# Altium footprint library con-phoenix-508.PCBLIB: 118 footprints (part 3 of 8)
Each footprint in its own frame and in the unit in brackets; x right, y up, seen from the top. Pads: shape width x height; smd on the part's side, far side on the other; paste and mask are expansions set on the pad; w line width, h text height; cw(c..) or ccw(c..) is an arc to the next point about the centre after c.
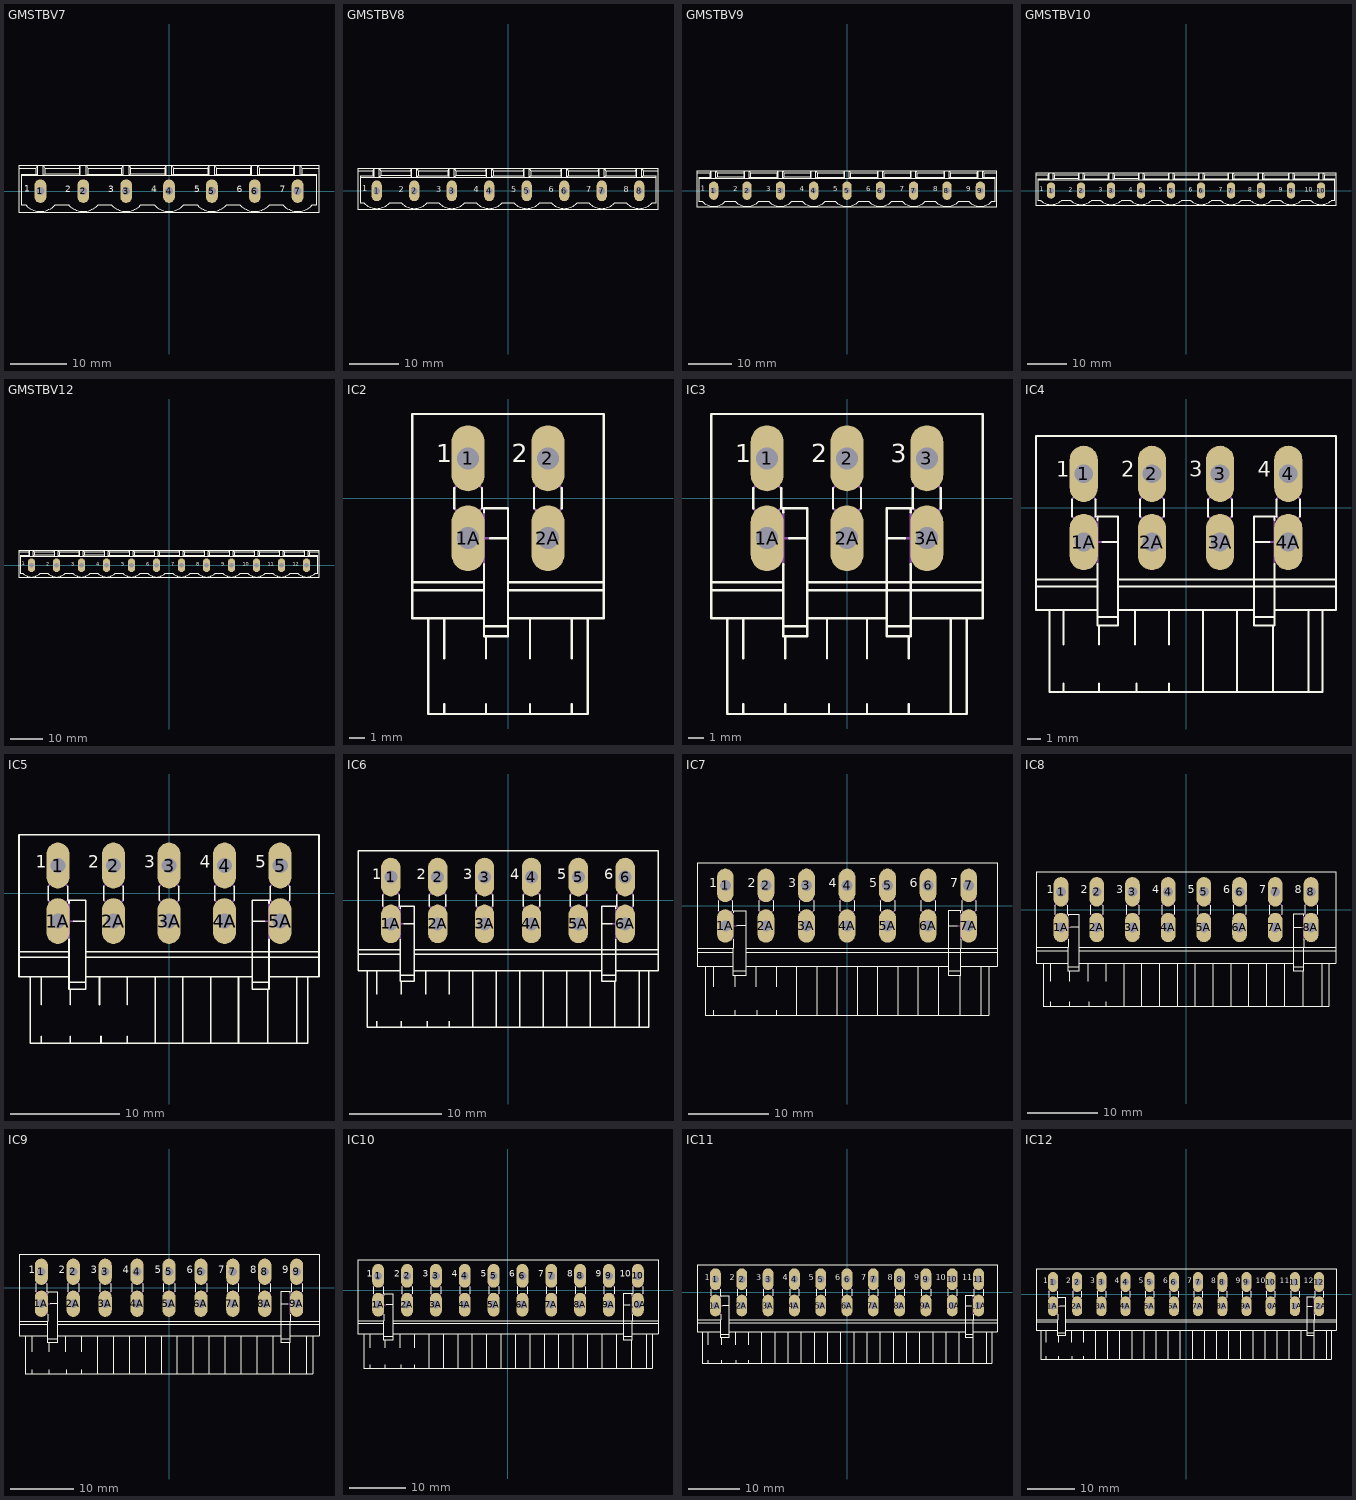
[diagram p2: the footprints below, top view; thin cyan lines are the x and y axes]

## GMSTBV7 [mil]
pads (7):
  oval 82.5x165 hole 55: 1(-900,0) 2(-600,0) 3(-300,0) 4(0,0) 5(300,0) 6(600,0) 7(900,0)
Top Overlay:
  lines w6: -1050,160 -1050,-150 1050,-150 1050,160 ; -1050,160 -1050,180 -920,180 ; -1050,160 -930,160 ; -1030,110 -1030,-100 -1000,-100 ccw(c-900,0) -800,-100 -700,-100 ccw(c-600,0) -500,-100 -400,-100 ccw(c-300,0) -200,-100 -100,-100 ccw(c0,0) 100,-100 200,-100 ccw(c300,0) 400,-100 500,-100 ccw(c600,0) 700,-100 800,-100 ccw(c900,0) 1000,-100 1030,-100 1030,110 ; -1030,110 -1030,120 -930,120 ; -1030,110 -920,110 ; -930,120 -920,110 ; -930,120 -930,160 ; -930,160 -920,180 ; -920,110 -880,110 ; -920,110 -920,180 ; -920,180 -880,180 ; -880,110 -620,110 ; -880,110 -880,180 ; -880,110 -870,120 ; -880,180 -620,180 ; -880,180 -870,160 ; -870,120 -870,160 ; -870,120 -630,120 ; -870,160 -630,160 ; -630,120 -630,160 ; -630,120 -620,110 ; -630,160 -620,180 ; -620,110 -580,110 ; -620,110 -620,180 ; -620,180 -580,180 ; -580,110 -580,180 ; -580,110 -570,120 ; -580,110 -320,110 ; -580,180 -570,160 ; -580,180 -320,180 ; -570,120 -570,160 ; -570,120 -330,120 ; -570,160 -330,160 ; -330,120 -320,110 ; -330,120 -330,160 ; -330,160 -320,180 ; -320,110 -280,110 ; -320,110 -320,180 ; -320,180 -280,180 ; -280,110 -20,110 ; -280,110 -280,180 ; -280,110 -270,120 ; -280,180 -20,180 ; -280,180 -270,160 ; -270,120 -270,160 ; -270,120 -30,120 ; -270,160 -30,160 ; -30,120 -30,160 ; -30,120 -20,110 ; -30,160 -20,180 ; -20,110 20,110 ; -20,110 -20,180 ; -20,180 20,180 ; 20,110 20,180 ; 20,110 30,120 ; 20,110 280,110 ; 20,180 30,160 ; 20,180 280,180 ; 30,120 30,160 ; 30,120 270,120 ; 30,160 270,160 ; 270,120 270,160 ; 270,120 280,110 ; 270,160 280,180 ; 280,110 320,110 ; 280,110 280,180 ; 280,180 320,180 ; 320,110 320,180 ; 320,110 330,120 ; 320,110 580,110 ; 320,180 330,160 ; 320,180 580,180 ; 330,120 570,120 ; 330,120 330,160 ; 330,160 570,160 ; 570,120 570,160 ; 570,120 580,110 ; 570,160 580,180 ; 580,110 620,110 ; 580,110 580,180 ; 580,180 620,180 ; 620,110 620,180 ; 620,110 630,120 ; 620,110 880,110 ; 620,180 630,160 ; 620,180 880,180 ; 630,120 870,120 ; 630,120 630,160 ; 630,160 870,160 ; 870,120 870,160 ; 870,120 880,110 ; 870,160 880,180 ; 880,110 920,110 ; 880,110 880,180 ; 880,180 920,180 ; 920,110 1030,110 ; 920,110 920,180 ; 920,110 930,120 ; 920,180 1050,180 1050,160 ; 920,180 930,160 ; 930,120 1030,120 1030,110 ; 930,120 930,160 ; 930,160 1050,160
  text "1" at -1015,-20 h77.5
  text "2" at -725,-25 h77.5
  text "3" at -425,-25 h77.5
  text "4" at -125,-25 h77.5
  text "5" at 175,-25 h77.5
  text "6" at 475,-25 h77.5
  text "7" at 775,-25 h77.5
Mechanical 16:
  lines w6: -925,-25 -925,25 ; -925,-25 -875,-25 ; -925,-25 -875,25 ; -925,25 -875,25 ; -925,25 -875,-25 ; -875,-25 -875,25 ; -625,-25 -625,25 ; -625,-25 -575,-25 ; -625,-25 -575,25 ; -625,25 -575,25 ; -625,25 -575,-25 ; -575,-25 -575,25 ; -325,-25 -325,25 ; -325,-25 -275,-25 ; -325,-25 -275,25 ; -325,25 -275,25 ; -325,25 -275,-25 ; -275,-25 -275,25 ; -25,-25 -25,25 ; -25,-25 25,-25 ; -25,-25 25,25 ; -25,25 25,25 ; -25,25 25,-25 ; 25,-25 25,25 ; 275,-25 275,25 ; 275,-25 325,-25 ; 275,-25 325,25 ; 275,25 325,25 ; 275,25 325,-25 ; 325,-25 325,25 ; 575,-25 575,25 ; 575,-25 625,-25 ; 575,-25 625,25 ; 575,25 625,25 ; 575,25 625,-25 ; 625,-25 625,25 ; 875,-25 875,25 ; 875,-25 925,-25 ; 875,-25 925,25 ; 875,25 925,25 ; 875,25 925,-25 ; 925,-25 925,25

## GMSTBV8 [mil]
pads (8):
  oval 82.5x165 hole 55: 1(-1050,0) 2(-750,0) 3(-450,0) 4(-150,0) 5(150,0) 6(450,0) 7(750,0) 8(1050,0)
Top Overlay:
  lines w6: -1200,160 -1200,-150 1200,-150 1200,160 ; -1200,160 -1200,180 -1070,180 ; -1200,160 -1080,160 ; -1180,110 -1180,-100 -1150,-100 ccw(c-1050,0) -950,-100 -850,-100 ccw(c-750,0) -650,-100 -550,-100 ccw(c-450,0) -350,-100 -250,-100 ccw(c-150,0) -50,-100 50,-100 ccw(c150,0) 250,-100 350,-100 ccw(c450,0) 550,-100 650,-100 ccw(c750,0) 850,-100 950,-100 ccw(c1050,0) 1150,-100 1180,-100 1180,110 ; -1180,110 -1180,120 -1080,120 ; -1180,110 -1070,110 ; -1080,120 -1070,110 ; -1080,120 -1080,160 ; -1080,160 -1070,180 ; -1070,110 -1030,110 ; -1070,110 -1070,180 ; -1070,180 -1030,180 ; -1030,110 -770,110 ; -1030,110 -1030,180 ; -1030,110 -1020,120 ; -1030,180 -770,180 ; -1030,180 -1020,160 ; -1020,120 -1020,160 ; -1020,120 -780,120 ; -1020,160 -780,160 ; -780,120 -780,160 ; -780,120 -770,110 ; -780,160 -770,180 ; -770,110 -730,110 ; -770,110 -770,180 ; -770,180 -730,180 ; -730,110 -730,180 ; -730,110 -720,120 ; -730,110 -470,110 ; -730,180 -720,160 ; -730,180 -470,180 ; -720,120 -720,160 ; -720,120 -480,120 ; -720,160 -480,160 ; -480,120 -470,110 ; -480,120 -480,160 ; -480,160 -470,180 ; -470,110 -430,110 ; -470,110 -470,180 ; -470,180 -430,180 ; -430,110 -170,110 ; -430,110 -430,180 ; -430,110 -420,120 ; -430,180 -170,180 ; -430,180 -420,160 ; -420,120 -420,160 ; -420,120 -180,120 ; -420,160 -180,160 ; -180,120 -180,160 ; -180,120 -170,110 ; -180,160 -170,180 ; -170,110 -130,110 ; -170,110 -170,180 ; -170,180 -130,180 ; -130,110 -130,180 ; -130,110 -120,120 ; -130,110 130,110 ; -130,180 -120,160 ; -130,180 130,180 ; -120,120 -120,160 ; -120,120 120,120 ; -120,160 120,160 ; 120,120 120,160 ; 120,120 130,110 ; 120,160 130,180 ; 130,110 170,110 ; 130,110 130,180 ; 130,180 170,180 ; 170,110 170,180 ; 170,110 180,120 ; 170,110 430,110 ; 170,180 180,160 ; 170,180 430,180 ; 180,120 420,120 ; 180,120 180,160 ; 180,160 420,160 ; 420,120 420,160 ; 420,120 430,110 ; 420,160 430,180 ; 430,110 470,110 ; 430,110 430,180 ; 430,180 470,180 ; 470,110 470,180 ; 470,110 480,120 ; 470,110 730,110 ; 470,180 480,160 ; 470,180 730,180 ; 480,120 720,120 ; 480,120 480,160 ; 480,160 720,160 ; 720,120 720,160 ; 720,120 730,110 ; 720,160 730,180 ; 730,110 770,110 ; 730,110 730,180 ; 730,180 770,180 ; 770,110 1030,110 ; 770,110 770,180 ; 770,110 780,120 ; 770,180 1030,180 ; 770,180 780,160 ; 780,120 1020,120 ; 780,120 780,160 ; 780,160 1020,160 ; 1020,120 1020,160 ; 1020,120 1030,110 ; 1020,160 1030,180 ; 1030,110 1070,110 ; 1030,110 1030,180 ; 1030,180 1070,180 ; 1070,110 1180,110 ; 1070,110 1070,180 ; 1070,110 1080,120 ; 1070,180 1200,180 1200,160 ; 1070,180 1080,160 ; 1080,120 1180,120 1180,110 ; 1080,120 1080,160 ; 1080,160 1200,160
  text "1" at -1165,-20 h77.5
  text "2" at -875,-25 h77.5
  text "3" at -575,-25 h77.5
  text "4" at -275,-25 h77.5
  text "5" at 25,-25 h77.5
  text "6" at 325,-25 h77.5
  text "7" at 625,-25 h77.5
  text "8" at 925,-25 h77.5
Mechanical 16:
  lines w6: -1075,-25 -1075,25 ; -1075,-25 -1025,-25 ; -1075,-25 -1025,25 ; -1075,25 -1025,25 ; -1075,25 -1025,-25 ; -1025,-25 -1025,25 ; -775,-25 -775,25 ; -775,-25 -725,-25 ; -775,-25 -725,25 ; -775,25 -725,25 ; -775,25 -725,-25 ; -725,-25 -725,25 ; -475,-25 -475,25 ; -475,-25 -425,-25 ; -475,-25 -425,25 ; -475,25 -425,25 ; -475,25 -425,-25 ; -425,-25 -425,25 ; -175,-25 -175,25 ; -175,-25 -125,-25 ; -175,-25 -125,25 ; -175,25 -125,25 ; -175,25 -125,-25 ; -125,-25 -125,25 ; 125,-25 125,25 ; 125,-25 175,-25 ; 125,-25 175,25 ; 125,25 175,25 ; 125,25 175,-25 ; 175,-25 175,25 ; 425,-25 425,25 ; 425,-25 475,-25 ; 425,-25 475,25 ; 425,25 475,25 ; 425,25 475,-25 ; 475,-25 475,25 ; 725,-25 725,25 ; 725,-25 775,-25 ; 725,-25 775,25 ; 725,25 775,25 ; 725,25 775,-25 ; 775,-25 775,25 ; 1025,-25 1075,-25 ; 1025,-25 1025,25 ; 1025,-25 1075,25 ; 1025,25 1075,25 ; 1025,25 1075,-25 ; 1075,-25 1075,25

## GMSTBV9 [mil]
pads (9):
  oval 82.5x165 hole 55: 1(-1200,0) 2(-900,0) 3(-600,0) 4(-300,0) 5(0,0) 6(300,0) 7(600,0) 8(900,0) 9(1200,0)
Top Overlay:
  drawing of 158 lines, arcs and shapes, not listed
  text "1" at -1315,-20 h77.5
  text "2" at -1025,-25 h77.5
  text "3" at -725,-25 h77.5
  text "4" at -425,-25 h77.5
  text "5" at -125,-25 h77.5
  text "6" at 175,-25 h77.5
  text "7" at 475,-25 h77.5
  text "8" at 775,-25 h77.5
  text "9" at 1075,-25 h77.5
Mechanical 16:
  lines w6: -1225,-25 -1225,25 ; -1225,-25 -1175,-25 ; -1225,-25 -1175,25 ; -1225,25 -1175,25 ; -1225,25 -1175,-25 ; -1175,-25 -1175,25 ; -925,-25 -925,25 ; -925,-25 -875,-25 ; -925,-25 -875,25 ; -925,25 -875,25 ; -925,25 -875,-25 ; -875,-25 -875,25 ; -625,-25 -625,25 ; -625,-25 -575,-25 ; -625,-25 -575,25 ; -625,25 -575,25 ; -625,25 -575,-25 ; -575,-25 -575,25 ; -325,-25 -325,25 ; -325,-25 -275,-25 ; -325,-25 -275,25 ; -325,25 -275,25 ; -325,25 -275,-25 ; -275,-25 -275,25 ; -25,-25 -25,25 ; -25,-25 25,-25 ; -25,-25 25,25 ; -25,25 25,25 ; -25,25 25,-25 ; 25,-25 25,25 ; 275,-25 275,25 ; 275,-25 325,-25 ; 275,-25 325,25 ; 275,25 325,25 ; 275,25 325,-25 ; 325,-25 325,25 ; 575,-25 575,25 ; 575,-25 625,-25 ; 575,-25 625,25 ; 575,25 625,25 ; 575,25 625,-25 ; 625,-25 625,25 ; 875,-25 875,25 ; 875,-25 925,25 ; 875,-25 925,-25 ; 875,25 925,25 ; 875,25 925,-25 ; 925,-25 925,25 ; 1175,-25 1225,-25 ; 1175,-25 1175,25 ; 1175,-25 1225,25 ; 1175,25 1225,25 ; 1175,25 1225,-25 ; 1225,-25 1225,25

## GMSTBV10 [mil]
pads (10):
  oval 82.5x165 hole 55: 1(-1350,0) 2(-1050,0) 3(-750,0) 4(-450,0) 5(-150,0) 6(150,0) 7(450,0) 8(750,0) 9(1050,0) 10(1350,0)
Top Overlay:
  drawing of 174 lines, arcs and shapes, not listed
  text "1" at -1465,-20 h77.5
  text "2" at -1175,-25 h77.5
  text "3" at -875,-25 h77.5
  text "4" at -575,-25 h77.5
  text "5" at -275,-25 h77.5
  text "6" at 25,-25 h77.5
  text "7" at 325,-25 h77.5
  text "8" at 625,-25 h77.5
  text "9" at 925,-25 h77.5
  text "10" at 1185,-25 h77.5
Mechanical 16:
  lines w6: -1375,-25 -1375,25 ; -1375,-25 -1325,-25 ; -1375,-25 -1325,25 ; -1375,25 -1325,25 ; -1375,25 -1325,-25 ; -1325,-25 -1325,25 ; -1075,-25 -1075,25 ; -1075,-25 -1025,-25 ; -1075,-25 -1025,25 ; -1075,25 -1025,25 ; -1075,25 -1025,-25 ; -1025,-25 -1025,25 ; -775,-25 -775,25 ; -775,-25 -725,-25 ; -775,-25 -725,25 ; -775,25 -725,25 ; -775,25 -725,-25 ; -725,-25 -725,25 ; -475,-25 -475,25 ; -475,-25 -425,-25 ; -475,-25 -425,25 ; -475,25 -425,25 ; -475,25 -425,-25 ; -425,-25 -425,25 ; -175,-25 -175,25 ; -175,-25 -125,-25 ; -175,-25 -125,25 ; -175,25 -125,25 ; -175,25 -125,-25 ; -125,-25 -125,25 ; 125,-25 125,25 ; 125,-25 175,-25 ; 125,-25 175,25 ; 125,25 175,25 ; 125,25 175,-25 ; 175,-25 175,25 ; 425,-25 425,25 ; 425,-25 475,-25 ; 425,-25 475,25 ; 425,25 475,25 ; 425,25 475,-25 ; 475,-25 475,25 ; 725,-25 725,25 ; 725,-25 775,25 ; 725,-25 775,-25 ; 725,25 775,25 ; 725,25 775,-25 ; 775,-25 775,25 ; 1025,-25 1075,-25 ; 1025,-25 1025,25 ; 1025,-25 1075,25 ; 1025,25 1075,25 ; 1025,25 1075,-25 ; 1075,-25 1075,25 ; 1325,-25 1375,-25 ; 1325,-25 1325,25 ; 1325,-25 1375,25 ; 1325,25 1375,25 ; 1325,25 1375,-25 ; 1375,-25 1375,25

## GMSTBV12 [mil]
pads (12):
  oval 82.5x165 hole 55: 1(-1650,0) 2(-1350,0) 3(-1050,0) 4(-750,0) 5(-450,0) 6(-150,0) 7(150,0) 8(450,0) 9(750,0) 10(1050,0) 11(1350,0) 12(1650,0)
Top Overlay:
  drawing of 206 lines, arcs and shapes, not listed
  text "1" at -1765,-20 h77.5
  text "2" at -1475,-25 h77.5
  text "3" at -1175,-25 h77.5
  text "4" at -875,-25 h77.5
  text "5" at -575,-25 h77.5
  text "6" at -275,-25 h77.5
  text "7" at 25,-25 h77.5
  text "8" at 325,-25 h77.5
  text "9" at 625,-25 h77.5
  text "10" at 885,-25 h77.5
  text "11" at 1185,-25 h77.5
  text "12" at 1485,-25 h77.5
Mechanical 16:
  lines w6: -1675,-25 -1675,25 ; -1675,-25 -1625,-25 ; -1675,-25 -1625,25 ; -1675,25 -1625,25 ; -1675,25 -1625,-25 ; -1625,-25 -1625,25 ; -1375,-25 -1375,25 ; -1375,-25 -1325,-25 ; -1375,-25 -1325,25 ; -1375,25 -1325,25 ; -1375,25 -1325,-25 ; -1325,-25 -1325,25 ; -1075,-25 -1075,25 ; -1075,-25 -1025,-25 ; -1075,-25 -1025,25 ; -1075,25 -1025,25 ; -1075,25 -1025,-25 ; -1025,-25 -1025,25 ; -775,-25 -775,25 ; -775,-25 -725,-25 ; -775,-25 -725,25 ; -775,25 -725,25 ; -775,25 -725,-25 ; -725,-25 -725,25 ; -475,-25 -475,25 ; -475,-25 -425,-25 ; -475,-25 -425,25 ; -475,25 -425,25 ; -475,25 -425,-25 ; -425,-25 -425,25 ; -175,-25 -175,25 ; -175,-25 -125,-25 ; -175,-25 -125,25 ; -175,25 -125,25 ; -175,25 -125,-25 ; -125,-25 -125,25 ; 125,-25 125,25 ; 125,-25 175,-25 ; 125,-25 175,25 ; 125,25 175,25 ; 125,25 175,-25 ; 175,-25 175,25 ; 425,-25 425,25 ; 425,-25 475,25 ; 425,-25 475,-25 ; 425,25 475,25 ; 425,25 475,-25 ; 475,-25 475,25 ; 725,-25 775,-25 ; 725,-25 725,25 ; 725,-25 775,25 ; 725,25 775,25 ; 725,25 775,-25 ; 775,-25 775,25 ; 1025,-25 1075,-25 ; 1025,-25 1025,25 ; 1025,-25 1075,25 ; 1025,25 1075,25 ; 1025,25 1075,-25 ; 1075,-25 1075,25 ; 1325,-25 1325,25 ; 1325,-25 1375,-25 ; 1325,-25 1375,25 ; 1325,25 1375,25 ; 1325,25 1375,-25 ; 1375,-25 1375,25 ; 1625,-25 1625,25 ; 1625,-25 1675,-25 ; 1625,-25 1675,25 ; 1625,25 1675,25 ; 1625,25 1675,-25 ; 1675,-25 1675,25

## IC2 [mil]
pads (4):
  oval 82.5x165 hole 55: 1(-100,100) 1A(-100,-100) 2(100,100) 2A(100,-100)
Top Overlay:
  lines w6: -160,-515 -160,-540 ; -160,-400 -160,-300 ; -135,-25 -135,25 ; -65,-25 -65,25 ; -60,-165 -60,-210 ; -60,-35 -60,-25 0,-25 0,-100 ; -55,-515 -55,-540 ; -55,-400 -55,-345 ; -45,-100 0,-100 ; 55,-515 55,-540 ; 55,-400 55,-300 ; 65,-25 65,25 ; 135,-25 135,25 ; 160,-515 160,-540 ; 160,-400 160,-300 ; -240,-230 -240,-210 ; -240,-230 -60,-230 ; -240,-230 -240,-300 -200,-300 ; -240,-210 -240,211 240,211 240,-210 ; -240,-210 -60,-210 ; -200,-300 -160,-300 ; -200,-300 -200,-540 -160,-540 ; -160,-540 -55,-540 ; -160,-300 -60,-300 ; -60,-320 -60,-345 -55,-345 ; -60,-320 0,-320 ; -60,-320 -60,-300 ; -60,-300 -60,-230 ; -60,-230 -60,-210 ; -55,-540 55,-540 ; -55,-345 0,-345 0,-320 ; 0,-320 0,-300 ; 0,-300 0,-230 ; 0,-300 55,-300 ; 0,-230 0,-210 ; 0,-230 240,-230 ; 0,-210 0,-100 ; 0,-210 240,-210 ; 55,-540 160,-540 ; 55,-300 160,-300 ; 160,-540 200,-540 200,-300 ; 160,-300 200,-300 ; 200,-300 240,-300 240,-230 ; 240,-230 240,-210
  text "1" at -180,75 h77.5
  text "2" at 10,75 h77.5
Mechanical 16:
  lines w6: -135,-25 -125,-35 -75,-35 -65,-25 ; -135,25 -125,35 -75,35 -65,25 ; -60,-165 -60,-100 ; -60,-35 -60,-100 ; -45,-100 -60,-100 ; 65,-25 75,-35 125,-35 135,-25 ; 65,25 75,35 125,35 135,25

## IC3 [mil]
pads (6):
  oval 82.5x165 hole 55: 1(-200,100) 1A(-200,-100) 2(0,100) 2A(0,-100) 3(200,100) 3A(200,-100)
Top Overlay:
  lines w6: -260,-515 -260,-540 ; -260,-400 -260,-300 ; -235,-25 -235,25 ; -165,-25 -165,25 ; -160,-165 -160,-210 ; -160,-35 -160,-25 -100,-25 -100,-100 ; -155,-515 -155,-540 ; -155,-400 -155,-345 ; -145,-100 -100,-100 ; -50,-400 -50,-300 ; -45,-515 -45,-540 ; -35,-25 -35,25 ; 35,-25 35,25 ; 50,-515 50,-540 ; 50,-400 50,-300 ; 145,-100 100,-100 ; 155,-515 155,-540 ; 155,-400 155,-345 ; 160,-165 160,-210 ; 160,-35 160,-25 100,-25 100,-100 ; 165,-25 165,25 ; 235,-25 235,25 ; -340,-230 -340,-210 ; -340,-230 -160,-230 ; -340,-230 -340,-300 -300,-300 ; -340,-210 -340,211 340,211 340,-210 ; -340,-210 -160,-210 ; -300,-300 -260,-300 ; -300,-300 -300,-540 -260,-540 ; -260,-540 -155,-540 ; -260,-300 -160,-300 ; -160,-320 -160,-345 -155,-345 ; -160,-320 -100,-320 ; -160,-320 -160,-300 ; -160,-300 -160,-230 ; -160,-230 -160,-210 ; -155,-540 -45,-540 ; -155,-345 -100,-345 -100,-320 ; -100,-320 -100,-300 ; -100,-300 -100,-230 ; -100,-300 -50,-300 ; -100,-230 -100,-210 ; -100,-230 100,-230 ; -100,-210 -100,-100 ; -100,-210 100,-210 ; -50,-300 50,-300 ; -45,-540 50,-540 ; 50,-540 155,-540 ; 50,-300 100,-300 ; 100,-320 100,-300 ; 100,-320 160,-320 ; 100,-320 100,-345 155,-345 ; 100,-300 100,-230 ; 100,-230 160,-230 ; 100,-230 100,-210 ; 100,-210 160,-210 ; 100,-210 100,-100 ; 155,-540 260,-540 ; 155,-345 160,-345 160,-320 ; 160,-320 160,-300 ; 160,-300 260,-300 ; 160,-300 160,-230 ; 160,-230 340,-230 ; 160,-230 160,-210 ; 160,-210 340,-210 ; 260,-540 300,-540 300,-300 ; 260,-540 260,-300 ; 260,-300 300,-300 ; 300,-300 340,-300 340,-230 ; 340,-230 340,-210
  text "3" at 110,75 h77.5
  text "1" at -280,75 h77.5
  text "2" at -90,75 h77.5
Mechanical 16:
  lines w6: -235,-25 -225,-35 -175,-35 -165,-25 ; -235,25 -225,35 -175,35 -165,25 ; -160,-165 -160,-100 ; -160,-35 -160,-100 ; -145,-100 -160,-100 ; -35,-25 -25,-35 25,-35 35,-25 ; -35,25 -25,35 25,35 35,25 ; 145,-100 160,-100 ; 160,-165 160,-100 ; 160,-35 160,-100 ; 165,-25 175,-35 225,-35 235,-25 ; 165,25 175,35 225,35 235,25

## IC4 [mil]
pads (8):
  oval 82.5x165 hole 55: 1(-300,100) 1A(-300,-100) 2(-100,100) 2A(-100,-100) 3(100,100) 3A(100,-100) 4(300,100) 4A(300,-100)
Top Overlay:
  lines w6: -360,-515 -360,-540 ; -360,-400 -360,-300 ; -335,-25 -335,25 ; -265,-25 -265,25 ; -260,-165 -260,-210 ; -260,-35 -260,-25 -200,-25 -200,-100 ; -255,-515 -255,-540 ; -255,-400 -255,-345 ; -245,-100 -200,-100 ; -150,-400 -150,-300 ; -145,-515 -145,-540 ; -135,-25 -135,25 ; -65,-25 -65,25 ; -50,-515 -50,-540 ; -50,-400 -50,-300 ; 65,-25 65,25 ; 135,-25 135,25 ; 245,-100 200,-100 ; 260,-165 260,-210 ; 260,-35 260,-25 200,-25 200,-100 ; 265,-25 265,25 ; 335,-25 335,25 ; -440,-230 -440,-210 ; -440,-230 -260,-230 ; -440,-230 -440,-300 -400,-300 ; -440,-210 -440,211 440,211 440,-210 ; -440,-210 -260,-210 ; -400,-300 -360,-300 ; -400,-300 -400,-540 -360,-540 ; -360,-540 -255,-540 ; -360,-300 -260,-300 ; -260,-320 -260,-345 -255,-345 ; -260,-320 -200,-320 ; -260,-320 -260,-300 ; -260,-300 -260,-230 ; -260,-230 -260,-210 ; -255,-540 -145,-540 ; -255,-345 -200,-345 -200,-320 ; -200,-320 -200,-300 ; -200,-300 -200,-230 ; -200,-300 -150,-300 ; -200,-230 -200,-210 ; -200,-230 200,-230 ; -200,-210 -200,-100 ; -200,-210 200,-210 ; -150,-300 -50,-300 ; -145,-540 -50,-540 ; -50,-540 50,-540 ; -50,-300 50,-300 ; 50,-540 150,-540 ; 50,-540 50,-300 ; 50,-300 150,-300 ; 150,-540 255,-540 ; 150,-540 150,-300 ; 150,-300 200,-300 ; 200,-320 200,-300 ; 200,-320 260,-320 ; 200,-320 200,-345 255,-345 ; 200,-300 200,-230 ; 200,-230 260,-230 ; 200,-230 200,-210 ; 200,-210 260,-210 ; 200,-210 200,-100 ; 255,-540 360,-540 ; 255,-540 255,-345 ; 255,-345 260,-345 260,-320 ; 260,-320 260,-300 ; 260,-300 360,-300 ; 260,-300 260,-230 ; 260,-230 440,-230 ; 260,-230 260,-210 ; 260,-210 440,-210 ; 360,-540 400,-540 400,-300 ; 360,-540 360,-300 ; 360,-300 400,-300 ; 400,-300 440,-300 440,-230 ; 440,-230 440,-210
  text "4" at 210,75 h77.5
  text "3" at 10,75 h77.5
  text "1" at -380,75 h77.5
  text "2" at -190,75 h77.5
Mechanical 16:
  lines w6: -335,-25 -325,-35 -275,-35 -265,-25 ; -335,25 -325,35 -275,35 -265,25 ; -260,-165 -260,-100 ; -260,-35 -260,-100 ; -245,-100 -260,-100 ; -135,-25 -125,-35 -75,-35 -65,-25 ; -135,25 -125,35 -75,35 -65,25 ; 65,-25 75,-35 125,-35 135,-25 ; 65,25 75,35 125,35 135,25 ; 245,-100 260,-100 ; 260,-165 260,-100 ; 260,-35 260,-100 ; 265,-25 275,-35 325,-35 335,-25 ; 265,25 275,35 325,35 335,25

## IC5 [mil]
pads (10):
  oval 82.5x165 hole 55: 1(-400,100) 1A(-400,-100) 2(-200,100) 2A(-200,-100) 3(0,100) 3A(0,-100) 4(200,100) 4A(200,-100) 5(400,100) 5A(400,-100)
Top Overlay:
  lines w6: -460,-515 -460,-540 ; -460,-400 -460,-300 ; -435,-25 -435,25 ; -365,-25 -365,25 ; -360,-165 -360,-210 ; -360,-35 -360,-25 -300,-25 -300,-100 ; -355,-515 -355,-540 ; -355,-400 -355,-345 ; -345,-100 -300,-100 ; -250,-400 -250,-300 ; -245,-515 -245,-540 ; -235,-25 -235,25 ; -165,-25 -165,25 ; -150,-515 -150,-540 ; -150,-400 -150,-300 ; -35,-25 -35,25 ; 35,-25 35,25 ; 165,-25 165,25 ; 235,-25 235,25 ; 345,-100 300,-100 ; 360,-165 360,-210 ; 360,-35 360,-25 300,-25 300,-100 ; 365,-25 365,25 ; 435,-25 435,25 ; -540,-230 -540,-210 ; -540,-230 -360,-230 ; -540,-230 -540,-300 -500,-300 ; -540,-210 -540,211 540,211 540,-210 ; -540,-210 -360,-210 ; -500,-300 -460,-300 ; -500,-300 -500,-540 -460,-540 ; -460,-540 -355,-540 ; -460,-300 -360,-300 ; -360,-320 -360,-345 -355,-345 ; -360,-320 -300,-320 ; -360,-320 -360,-300 ; -360,-300 -360,-230 ; -360,-230 -360,-210 ; -355,-540 -245,-540 ; -355,-345 -300,-345 -300,-320 ; -300,-320 -300,-300 ; -300,-300 -300,-230 ; -300,-300 -250,-300 ; -300,-230 -300,-210 ; -300,-230 300,-230 ; -300,-210 -300,-100 ; -300,-210 300,-210 ; -250,-300 -150,-300 ; -245,-540 -150,-540 ; -150,-540 -50,-540 ; -150,-300 -50,-300 ; -50,-540 50,-540 ; -50,-540 -50,-300 ; -50,-300 50,-300 ; 50,-540 150,-540 ; 50,-540 50,-300 ; 50,-300 150,-300 ; 150,-540 250,-540 ; 150,-540 150,-300 ; 150,-300 250,-300 ; 250,-540 355,-540 ; 250,-540 250,-300 ; 250,-300 300,-300 ; 300,-320 300,-300 ; 300,-320 360,-320 ; 300,-320 300,-345 355,-345 ; 300,-300 300,-230 ; 300,-230 360,-230 ; 300,-230 300,-210 ; 300,-210 360,-210 ; 300,-210 300,-100 ; 355,-540 460,-540 ; 355,-540 355,-345 ; 355,-345 360,-345 360,-320 ; 360,-320 360,-300 ; 360,-300 460,-300 ; 360,-300 360,-230 ; 360,-230 540,-230 ; 360,-230 360,-210 ; 360,-210 540,-210 ; 460,-540 500,-540 500,-300 ; 460,-540 460,-300 ; 460,-300 500,-300 ; 500,-300 540,-300 540,-230 ; 540,-230 540,-210
  text "3" at -90,75 h77.5
  text "1" at -480,75 h77.5
  text "2" at -290,75 h77.5
  text "4" at 110,75 h77.5
  text "5" at 310,75 h77.5
Mechanical 16:
  lines w6: -435,-25 -425,-35 -375,-35 -365,-25 ; -435,25 -425,35 -375,35 -365,25 ; -360,-165 -360,-100 ; -360,-35 -360,-100 ; -345,-100 -360,-100 ; -235,-25 -225,-35 -175,-35 -165,-25 ; -235,25 -225,35 -175,35 -165,25 ; -35,-25 -25,-35 25,-35 35,-25 ; -35,25 -25,35 25,35 35,25 ; 165,-25 175,-35 225,-35 235,-25 ; 165,25 175,35 225,35 235,25 ; 345,-100 360,-100 ; 360,-165 360,-100 ; 360,-35 360,-100 ; 365,-25 375,-35 425,-35 435,-25 ; 365,25 375,35 425,35 435,25

## IC6 [mil]
pads (12):
  oval 82.5x165 hole 55: 1(-500,100) 1A(-500,-100) 2(-300,100) 2A(-300,-100) 3(-100,100) 3A(-100,-100) 4(100,100) 4A(100,-100) 5(300,100) 5A(300,-100) 6(500,100) 6A(500,-100)
Top Overlay:
  lines w6: -560,-515 -560,-540 ; -560,-400 -560,-300 ; -535,-25 -535,25 ; -465,-25 -465,25 ; -460,-165 -460,-210 ; -460,-35 -460,-25 -400,-25 -400,-100 ; -455,-515 -455,-540 ; -455,-400 -455,-345 ; -445,-100 -400,-100 ; -350,-400 -350,-300 ; -345,-515 -345,-540 ; -335,-25 -335,25 ; -265,-25 -265,25 ; -250,-515 -250,-540 ; -250,-400 -250,-300 ; -135,-25 -135,25 ; -65,-25 -65,25 ; 65,-25 65,25 ; 135,-25 135,25 ; 265,-25 265,25 ; 335,-25 335,25 ; 445,-100 400,-100 ; 460,-165 460,-210 ; 460,-35 460,-25 400,-25 400,-100 ; 465,-25 465,25 ; 535,-25 535,25 ; -640,-230 -640,-210 ; -640,-230 -460,-230 ; -640,-230 -640,-300 -600,-300 ; -640,-210 -640,211 640,211 640,-210 ; -640,-210 -460,-210 ; -600,-300 -560,-300 ; -600,-300 -600,-540 -560,-540 ; -560,-540 -455,-540 ; -560,-300 -460,-300 ; -460,-320 -460,-345 -455,-345 ; -460,-320 -400,-320 ; -460,-320 -460,-300 ; -460,-300 -460,-230 ; -460,-230 -460,-210 ; -455,-540 -345,-540 ; -455,-345 -400,-345 -400,-320 ; -400,-320 -400,-300 ; -400,-300 -400,-230 ; -400,-300 -350,-300 ; -400,-230 -400,-210 ; -400,-230 400,-230 ; -400,-210 -400,-100 ; -400,-210 400,-210 ; -350,-300 -250,-300 ; -345,-540 -250,-540 ; -250,-540 -150,-540 ; -250,-300 -150,-300 ; -150,-540 -50,-540 ; -150,-540 -150,-300 ; -150,-300 -50,-300 ; -50,-540 50,-540 ; -50,-540 -50,-300 ; -50,-300 50,-300 ; 50,-540 150,-540 ; 50,-540 50,-300 ; 50,-300 150,-300 ; 150,-540 250,-540 ; 150,-540 150,-300 ; 150,-300 250,-300 ; 250,-540 350,-540 ; 250,-540 250,-300 ; 250,-300 350,-300 ; 350,-540 455,-540 ; 350,-540 350,-300 ; 350,-300 400,-300 ; 400,-320 400,-300 ; 400,-320 460,-320 ; 400,-320 400,-345 455,-345 ; 400,-300 400,-230 ; 400,-230 460,-230 ; 400,-230 400,-210 ; 400,-210 460,-210 ; 400,-210 400,-100 ; 455,-540 560,-540 ; 455,-540 455,-345 ; 455,-345 460,-345 460,-320 ; 460,-320 460,-300 ; 460,-300 560,-300 ; 460,-300 460,-230 ; 460,-230 640,-230 ; 460,-230 460,-210 ; 460,-210 640,-210 ; 560,-540 600,-540 600,-300 ; 560,-540 560,-300 ; 560,-300 600,-300 ; 600,-300 640,-300 640,-230 ; 640,-230 640,-210
  text "3" at -190,75 h77.5
  text "1" at -580,75 h77.5
  text "2" at -390,75 h77.5
  text "4" at 10,75 h77.5
  text "5" at 210,75 h77.5
  text "6" at 410,75 h77.5
Mechanical 16:
  lines w6: -535,-25 -525,-35 -475,-35 -465,-25 ; -535,25 -525,35 -475,35 -465,25 ; -460,-165 -460,-100 ; -460,-35 -460,-100 ; -445,-100 -460,-100 ; -335,-25 -325,-35 -275,-35 -265,-25 ; -335,25 -325,35 -275,35 -265,25 ; -135,-25 -125,-35 -75,-35 -65,-25 ; -135,25 -125,35 -75,35 -65,25 ; 65,-25 75,-35 125,-35 135,-25 ; 65,25 75,35 125,35 135,25 ; 265,-25 275,-35 325,-35 335,-25 ; 265,25 275,35 325,35 335,25 ; 445,-100 460,-100 ; 460,-165 460,-100 ; 460,-35 460,-100 ; 465,-25 475,-35 525,-35 535,-25 ; 465,25 475,35 525,35 535,25

## IC7 [mil]
pads (14):
  oval 82.5x165 hole 55: 1(-600,100) 1A(-600,-100) 2(-400,100) 2A(-400,-100) 3(-200,100) 3A(-200,-100) 4(0,100) 4A(0,-100) 5(200,100) 5A(200,-100) 6(400,100) 6A(400,-100) 7(600,100) 7A(600,-100)
Top Overlay:
  lines w6: -660,-515 -660,-540 ; -660,-400 -660,-300 ; -635,-25 -635,25 ; -565,-25 -565,25 ; -560,-165 -560,-210 ; -560,-35 -560,-25 -500,-25 -500,-100 ; -555,-515 -555,-540 ; -555,-400 -555,-345 ; -545,-100 -500,-100 ; -450,-400 -450,-300 ; -445,-515 -445,-540 ; -435,-25 -435,25 ; -365,-25 -365,25 ; -350,-515 -350,-540 ; -350,-400 -350,-300 ; -235,-25 -235,25 ; -165,-25 -165,25 ; -35,-25 -35,25 ; 35,-25 35,25 ; 165,-25 165,25 ; 235,-25 235,25 ; 365,-25 365,25 ; 435,-25 435,25 ; 545,-100 500,-100 ; 560,-165 560,-210 ; 560,-35 560,-25 500,-25 500,-100 ; 565,-25 565,25 ; 635,-25 635,25 ; -740,-230 -740,-210 ; -740,-230 -560,-230 ; -740,-230 -740,-300 -700,-300 ; -740,-210 -740,211 740,211 740,-210 ; -740,-210 -560,-210 ; -700,-300 -660,-300 ; -700,-300 -700,-540 -660,-540 ; -660,-540 -555,-540 ; -660,-300 -560,-300 ; -560,-320 -560,-345 -555,-345 ; -560,-320 -500,-320 ; -560,-320 -560,-300 ; -560,-300 -560,-230 ; -560,-230 -560,-210 ; -555,-540 -445,-540 ; -555,-345 -500,-345 -500,-320 ; -500,-320 -500,-300 ; -500,-300 -500,-230 ; -500,-300 -450,-300 ; -500,-230 -500,-210 ; -500,-230 500,-230 ; -500,-210 -500,-100 ; -500,-210 500,-210 ; -450,-300 -350,-300 ; -445,-540 -350,-540 ; -350,-540 -250,-540 ; -350,-300 -250,-300 ; -250,-540 -150,-540 ; -250,-540 -250,-300 ; -250,-300 -150,-300 ; -150,-540 -50,-540 ; -150,-540 -150,-300 ; -150,-300 -50,-300 ; -50,-540 50,-540 ; -50,-540 -50,-300 ; -50,-300 50,-300 ; 50,-540 150,-540 ; 50,-540 50,-300 ; 50,-300 150,-300 ; 150,-540 250,-540 ; 150,-540 150,-300 ; 150,-300 250,-300 ; 250,-540 350,-540 ; 250,-540 250,-300 ; 250,-300 350,-300 ; 350,-540 450,-540 ; 350,-540 350,-300 ; 350,-300 450,-300 ; 450,-540 555,-540 ; 450,-540 450,-300 ; 450,-300 500,-300 ; 500,-320 500,-300 ; 500,-320 560,-320 ; 500,-320 500,-345 555,-345 ; 500,-300 500,-230 ; 500,-230 560,-230 ; 500,-230 500,-210 ; 500,-210 560,-210 ; 500,-210 500,-100 ; 555,-540 660,-540 ; 555,-540 555,-345 ; 555,-345 560,-345 560,-320 ; 560,-320 560,-300 ; 560,-300 660,-300 ; 560,-300 560,-230 ; 560,-230 740,-230 ; 560,-230 560,-210 ; 560,-210 740,-210 ; 660,-540 700,-540 700,-300 ; 660,-540 660,-300 ; 660,-300 700,-300 ; 700,-300 740,-300 740,-230 ; 740,-230 740,-210
  text "3" at -290,75 h77.5
  text "1" at -680,75 h77.5
  text "2" at -490,75 h77.5
  text "4" at -90,75 h77.5
  text "5" at 110,75 h77.5
  text "6" at 310,75 h77.5
  text "7" at 510,75 h77.5
Mechanical 16:
  lines w6: -635,-25 -625,-35 -575,-35 -565,-25 ; -635,25 -625,35 -575,35 -565,25 ; -560,-165 -560,-100 ; -560,-35 -560,-100 ; -545,-100 -560,-100 ; -435,-25 -425,-35 -375,-35 -365,-25 ; -435,25 -425,35 -375,35 -365,25 ; -235,-25 -225,-35 -175,-35 -165,-25 ; -235,25 -225,35 -175,35 -165,25 ; -35,-25 -25,-35 25,-35 35,-25 ; -35,25 -25,35 25,35 35,25 ; 165,-25 175,-35 225,-35 235,-25 ; 165,25 175,35 225,35 235,25 ; 365,-25 375,-35 425,-35 435,-25 ; 365,25 375,35 425,35 435,25 ; 545,-100 560,-100 ; 560,-165 560,-100 ; 560,-35 560,-100 ; 565,-25 575,-35 625,-35 635,-25 ; 565,25 575,35 625,35 635,25

## IC8 [mil]
pads (16):
  oval 82.5x165 hole 55: 1(-700,100) 1A(-700,-100) 2(-500,100) 2A(-500,-100) 3(-300,100) 3A(-300,-100) 4(-100,100) 4A(-100,-100) 5(100,100) 5A(100,-100) 6(300,100) 6A(300,-100) 7(500,100) 7A(500,-100) 8(700,100) 8A(700,-100)
Top Overlay:
  lines w6: -760,-515 -760,-540 ; -760,-400 -760,-300 ; -735,-25 -735,25 ; -665,-25 -665,25 ; -660,-165 -660,-210 ; -660,-35 -660,-25 -600,-25 -600,-100 ; -655,-515 -655,-540 ; -655,-400 -655,-345 ; -645,-100 -600,-100 ; -550,-400 -550,-300 ; -545,-515 -545,-540 ; -535,-25 -535,25 ; -465,-25 -465,25 ; -450,-515 -450,-540 ; -450,-400 -450,-300 ; -335,-25 -335,25 ; -265,-25 -265,25 ; -135,-25 -135,25 ; -65,-25 -65,25 ; 65,-25 65,25 ; 135,-25 135,25 ; 265,-25 265,25 ; 335,-25 335,25 ; 465,-25 465,25 ; 535,-25 535,25 ; 645,-100 600,-100 ; 660,-165 660,-210 ; 660,-35 660,-25 600,-25 600,-100 ; 665,-25 665,25 ; 735,-25 735,25 ; -840,-230 -840,-210 ; -840,-230 -660,-230 ; -840,-230 -840,-300 -800,-300 ; -840,-210 -840,211 840,211 840,-210 ; -840,-210 -660,-210 ; -800,-300 -760,-300 ; -800,-300 -800,-540 -760,-540 ; -760,-540 -655,-540 ; -760,-300 -660,-300 ; -660,-320 -660,-345 -655,-345 ; -660,-320 -600,-320 ; -660,-320 -660,-300 ; -660,-300 -660,-230 ; -660,-230 -660,-210 ; -655,-540 -545,-540 ; -655,-345 -600,-345 -600,-320 ; -600,-320 -600,-300 ; -600,-300 -600,-230 ; -600,-300 -550,-300 ; -600,-230 -600,-210 ; -600,-230 600,-230 ; -600,-210 -600,-100 ; -600,-210 600,-210 ; -550,-300 -450,-300 ; -545,-540 -450,-540 ; -450,-540 -350,-540 ; -450,-300 -350,-300 ; -350,-540 -250,-540 ; -350,-540 -350,-300 ; -350,-300 -250,-300 ; -250,-540 -150,-540 ; -250,-540 -250,-300 ; -250,-300 -150,-300 ; -150,-540 -50,-540 ; -150,-540 -150,-300 ; -150,-300 -50,-300 ; -50,-540 50,-540 ; -50,-540 -50,-300 ; -50,-300 50,-300 ; 50,-540 150,-540 ; 50,-540 50,-300 ; 50,-300 150,-300 ; 150,-540 250,-540 ; 150,-540 150,-300 ; 150,-300 250,-300 ; 250,-540 350,-540 ; 250,-540 250,-300 ; 250,-300 350,-300 ; 350,-540 450,-540 ; 350,-540 350,-300 ; 350,-300 450,-300 ; 450,-540 550,-540 ; 450,-540 450,-300 ; 450,-300 550,-300 ; 550,-540 655,-540 ; 550,-540 550,-300 ; 550,-300 600,-300 ; 600,-320 600,-300 ; 600,-320 660,-320 ; 600,-320 600,-345 655,-345 ; 600,-300 600,-230 ; 600,-230 660,-230 ; 600,-230 600,-210 ; 600,-210 660,-210 ; 600,-210 600,-100 ; 655,-540 760,-540 ; 655,-540 655,-345 ; 655,-345 660,-345 660,-320 ; 660,-320 660,-300 ; 660,-300 760,-300 ; 660,-300 660,-230 ; 660,-230 840,-230 ; 660,-230 660,-210 ; 660,-210 840,-210 ; 760,-540 800,-540 800,-300 ; 760,-540 760,-300 ; 760,-300 800,-300 ; 800,-300 840,-300 840,-230 ; 840,-230 840,-210
  text "3" at -390,75 h77.5
  text "1" at -780,75 h77.5
  text "2" at -590,75 h77.5
  text "4" at -190,75 h77.5
  text "5" at 10,75 h77.5
  text "6" at 210,75 h77.5
  text "7" at 410,75 h77.5
  text "8" at 610,75 h77.5
Mechanical 16:
  lines w6: -735,-25 -725,-35 -675,-35 -665,-25 ; -735,25 -725,35 -675,35 -665,25 ; -660,-165 -660,-100 ; -660,-35 -660,-100 ; -645,-100 -660,-100 ; -535,-25 -525,-35 -475,-35 -465,-25 ; -535,25 -525,35 -475,35 -465,25 ; -335,-25 -325,-35 -275,-35 -265,-25 ; -335,25 -325,35 -275,35 -265,25 ; -135,-25 -125,-35 -75,-35 -65,-25 ; -135,25 -125,35 -75,35 -65,25 ; 65,-25 75,-35 125,-35 135,-25 ; 65,25 75,35 125,35 135,25 ; 265,-25 275,-35 325,-35 335,-25 ; 265,25 275,35 325,35 335,25 ; 465,-25 475,-35 525,-35 535,-25 ; 465,25 475,35 525,35 535,25 ; 645,-100 660,-100 ; 660,-165 660,-100 ; 660,-35 660,-100 ; 665,-25 675,-35 725,-35 735,-25 ; 665,25 675,35 725,35 735,25

## IC9 [mil]
pads (18):
  oval 82.5x165 hole 55: 1(-800,100) 1A(-800,-100) 2(-600,100) 2A(-600,-100) 3(-400,100) 3A(-400,-100) 4(-200,100) 4A(-200,-100) 5(0,100) 5A(0,-100) 6(200,100) 6A(200,-100) 7(400,100) 7A(400,-100) 8(600,100) 8A(600,-100) 9(800,100) 9A(800,-100)
Top Overlay:
  lines w6: -860,-515 -860,-540 ; -860,-400 -860,-300 ; -835,-25 -835,25 ; -765,-25 -765,25 ; -760,-165 -760,-210 ; -760,-35 -760,-25 -700,-25 -700,-100 ; -755,-515 -755,-540 ; -755,-400 -755,-345 ; -745,-100 -700,-100 ; -650,-400 -650,-300 ; -645,-515 -645,-540 ; -635,-25 -635,25 ; -565,-25 -565,25 ; -550,-515 -550,-540 ; -550,-400 -550,-300 ; -435,-25 -435,25 ; -365,-25 -365,25 ; -235,-25 -235,25 ; -165,-25 -165,25 ; -35,-25 -35,25 ; 35,-25 35,25 ; 165,-25 165,25 ; 235,-25 235,25 ; 365,-25 365,25 ; 435,-25 435,25 ; 565,-25 565,25 ; 635,-25 635,25 ; 745,-100 700,-100 ; 760,-165 760,-210 ; 760,-35 760,-25 700,-25 700,-100 ; 765,-25 765,25 ; 835,-25 835,25 ; -940,-230 -940,-210 ; -940,-230 -760,-230 ; -940,-230 -940,-300 -900,-300 ; -940,-210 -940,211 940,211 940,-210 ; -940,-210 -760,-210 ; -900,-300 -860,-300 ; -900,-300 -900,-540 -860,-540 ; -860,-540 -755,-540 ; -860,-300 -760,-300 ; -760,-320 -760,-345 -755,-345 ; -760,-320 -700,-320 ; -760,-320 -760,-300 ; -760,-300 -760,-230 ; -760,-230 -760,-210 ; -755,-540 -645,-540 ; -755,-345 -700,-345 -700,-320 ; -700,-320 -700,-300 ; -700,-300 -700,-230 ; -700,-300 -650,-300 ; -700,-230 -700,-210 ; -700,-230 700,-230 ; -700,-210 -700,-100 ; -700,-210 700,-210 ; -650,-300 -550,-300 ; -645,-540 -550,-540 ; -550,-540 -450,-540 ; -550,-300 -450,-300 ; -450,-540 -350,-540 ; -450,-540 -450,-300 ; -450,-300 -350,-300 ; -350,-540 -250,-540 ; -350,-540 -350,-300 ; -350,-300 -250,-300 ; -250,-540 -150,-540 ; -250,-540 -250,-300 ; -250,-300 -150,-300 ; -150,-540 -50,-540 ; -150,-540 -150,-300 ; -150,-300 -50,-300 ; -50,-540 50,-540 ; -50,-540 -50,-300 ; -50,-300 50,-300 ; 50,-540 150,-540 ; 50,-540 50,-300 ; 50,-300 150,-300 ; 150,-540 250,-540 ; 150,-540 150,-300 ; 150,-300 250,-300 ; 250,-540 350,-540 ; 250,-540 250,-300 ; 250,-300 350,-300 ; 350,-540 450,-540 ; 350,-540 350,-300 ; 350,-300 450,-300 ; 450,-540 550,-540 ; 450,-540 450,-300 ; 450,-300 550,-300 ; 550,-540 650,-540 ; 550,-540 550,-300 ; 550,-300 650,-300 ; 650,-540 755,-540 ; 650,-540 650,-300 ; 650,-300 700,-300 ; 700,-320 700,-300 ; 700,-320 760,-320 ; 700,-320 700,-345 755,-345 ; 700,-300 700,-230 ; 700,-230 760,-230 ; 700,-230 700,-210 ; 700,-210 760,-210 ; 700,-210 700,-100 ; 755,-540 860,-540 ; 755,-540 755,-345 ; 755,-345 760,-345 760,-320 ; 760,-320 760,-300 ; 760,-300 860,-300 ; 760,-300 760,-230 ; 760,-230 940,-230 ; 760,-230 760,-210 ; 760,-210 940,-210 ; 860,-540 900,-540 900,-300 ; 860,-540 860,-300 ; 860,-300 900,-300 ; 900,-300 940,-300 940,-230 ; 940,-230 940,-210
  text "3" at -490,75 h77.5
  text "1" at -880,75 h77.5
  text "2" at -690,75 h77.5
  text "4" at -290,75 h77.5
  text "5" at -90,75 h77.5
  text "6" at 110,75 h77.5
  text "7" at 310,75 h77.5
  text "8" at 510,75 h77.5
  text "9" at 710,75 h77.5
Mechanical 16:
  lines w6: -835,-25 -825,-35 -775,-35 -765,-25 ; -835,25 -825,35 -775,35 -765,25 ; -760,-165 -760,-100 ; -760,-35 -760,-100 ; -745,-100 -760,-100 ; -635,-25 -625,-35 -575,-35 -565,-25 ; -635,25 -625,35 -575,35 -565,25 ; -435,-25 -425,-35 -375,-35 -365,-25 ; -435,25 -425,35 -375,35 -365,25 ; -235,-25 -225,-35 -175,-35 -165,-25 ; -235,25 -225,35 -175,35 -165,25 ; -35,-25 -25,-35 25,-35 35,-25 ; -35,25 -25,35 25,35 35,25 ; 165,-25 175,-35 225,-35 235,-25 ; 165,25 175,35 225,35 235,25 ; 365,-25 375,-35 425,-35 435,-25 ; 365,25 375,35 425,35 435,25 ; 565,-25 575,-35 625,-35 635,-25 ; 565,25 575,35 625,35 635,25 ; 745,-100 760,-100 ; 760,-165 760,-100 ; 760,-35 760,-100 ; 765,-25 775,-35 825,-35 835,-25 ; 765,25 775,35 825,35 835,25

## IC10 [mil]
pads (20):
  oval 82.5x165 hole 55: 1(-900,100) 1A(-900,-100) 2(-700,100) 2A(-700,-100) 3(-500,100) 3A(-500,-100) 4(-300,100) 4A(-300,-100) 5(-100,100) 5A(-100,-100) 6(100,100) 6A(100,-100) 7(300,100) 7A(300,-100) 8(500,100) 8A(500,-100) 9(700,100) 9A(700,-100) 10(900,100) 10A(900,-100)
Top Overlay:
  lines w6: -960,-515 -960,-540 ; -960,-400 -960,-300 ; -935,-25 -935,25 ; -865,-25 -865,25 ; -860,-165 -860,-210 ; -860,-35 -860,-25 -800,-25 -800,-100 ; -855,-515 -855,-540 ; -855,-400 -855,-345 ; -845,-100 -800,-100 ; -750,-400 -750,-300 ; -745,-515 -745,-540 ; -735,-25 -735,25 ; -665,-25 -665,25 ; -650,-515 -650,-540 ; -650,-400 -650,-300 ; -535,-25 -535,25 ; -465,-25 -465,25 ; -335,-25 -335,25 ; -265,-25 -265,25 ; -135,-25 -135,25 ; -65,-25 -65,25 ; 65,-25 65,25 ; 135,-25 135,25 ; 265,-25 265,25 ; 335,-25 335,25 ; 465,-25 465,25 ; 535,-25 535,25 ; 665,-25 665,25 ; 735,-25 735,25 ; 845,-100 800,-100 ; 860,-165 860,-210 ; 860,-35 860,-25 800,-25 800,-100 ; 865,-25 865,25 ; 935,-25 935,25 ; -1040,-230 -1040,-210 ; -1040,-230 -860,-230 ; -1040,-230 -1040,-300 -1000,-300 ; -1040,-210 -1040,211 1040,211 1040,-210 ; -1040,-210 -860,-210 ; -1000,-300 -960,-300 ; -1000,-300 -1000,-540 -960,-540 ; -960,-540 -855,-540 ; -960,-300 -860,-300 ; -860,-320 -860,-345 -855,-345 ; -860,-320 -800,-320 ; -860,-320 -860,-300 ; -860,-300 -860,-230 ; -860,-230 -860,-210 ; -855,-540 -745,-540 ; -855,-345 -800,-345 -800,-320 ; -800,-320 -800,-300 ; -800,-300 -800,-230 ; -800,-300 -750,-300 ; -800,-230 -800,-210 ; -800,-230 800,-230 ; -800,-210 -800,-100 ; -800,-210 800,-210 ; -750,-300 -650,-300 ; -745,-540 -650,-540 ; -650,-540 -550,-540 ; -650,-300 -550,-300 ; -550,-540 -450,-540 ; -550,-540 -550,-300 ; -550,-300 -450,-300 ; -450,-540 -350,-540 ; -450,-540 -450,-300 ; -450,-300 -350,-300 ; -350,-540 -250,-540 ; -350,-540 -350,-300 ; -350,-300 -250,-300 ; -250,-540 -150,-540 ; -250,-540 -250,-300 ; -250,-300 -150,-300 ; -150,-540 -50,-540 ; -150,-540 -150,-300 ; -150,-300 -50,-300 ; -50,-540 50,-540 ; -50,-540 -50,-300 ; -50,-300 50,-300 ; 50,-540 150,-540 ; 50,-540 50,-300 ; 50,-300 150,-300 ; 150,-540 250,-540 ; 150,-540 150,-300 ; 150,-300 250,-300 ; 250,-540 350,-540 ; 250,-540 250,-300 ; 250,-300 350,-300 ; 350,-540 450,-540 ; 350,-540 350,-300 ; 350,-300 450,-300 ; 450,-540 550,-540 ; 450,-540 450,-300 ; 450,-300 550,-300 ; 550,-540 650,-540 ; 550,-540 550,-300 ; 550,-300 650,-300 ; 650,-540 750,-540 ; 650,-540 650,-300 ; 650,-300 750,-300 ; 750,-540 855,-540 ; 750,-540 750,-300 ; 750,-300 800,-300 ; 800,-320 800,-300 ; 800,-320 860,-320 ; 800,-320 800,-345 855,-345 ; 800,-300 800,-230 ; 800,-230 860,-230 ; 800,-230 800,-210 ; 800,-210 860,-210 ; 800,-210 800,-100 ; 855,-540 960,-540 ; 855,-540 855,-345 ; 855,-345 860,-345 860,-320 ; 860,-320 860,-300 ; 860,-300 960,-300 ; 860,-300 860,-230 ; 860,-230 1040,-230 ; 860,-230 860,-210 ; 860,-210 1040,-210 ; 960,-540 1000,-540 1000,-300 ; 960,-540 960,-300 ; 960,-300 1000,-300 ; 1000,-300 1040,-300 1040,-230 ; 1040,-230 1040,-210
  text "3" at -590,75 h77.5
  text "1" at -980,75 h77.5
  text "2" at -790,75 h77.5
  text "4" at -390,75 h77.5
  text "5" at -190,75 h77.5
  text "6" at 10,75 h77.5
  text "7" at 210,75 h77.5
  text "8" at 410,75 h77.5
  text "9" at 610,75 h77.5
  text "10" at 775,75 h77.5
Mechanical 16:
  lines w6: -935,-25 -925,-35 -875,-35 -865,-25 ; -935,25 -925,35 -875,35 -865,25 ; -860,-165 -860,-100 ; -860,-35 -860,-100 ; -845,-100 -860,-100 ; -735,-25 -725,-35 -675,-35 -665,-25 ; -735,25 -725,35 -675,35 -665,25 ; -535,-25 -525,-35 -475,-35 -465,-25 ; -535,25 -525,35 -475,35 -465,25 ; -335,-25 -325,-35 -275,-35 -265,-25 ; -335,25 -325,35 -275,35 -265,25 ; -135,-25 -125,-35 -75,-35 -65,-25 ; -135,25 -125,35 -75,35 -65,25 ; 65,-25 75,-35 125,-35 135,-25 ; 65,25 75,35 125,35 135,25 ; 265,-25 275,-35 325,-35 335,-25 ; 265,25 275,35 325,35 335,25 ; 465,-25 475,-35 525,-35 535,-25 ; 465,25 475,35 525,35 535,25 ; 665,-25 675,-35 725,-35 735,-25 ; 665,25 675,35 725,35 735,25 ; 845,-100 860,-100 ; 860,-165 860,-100 ; 860,-35 860,-100 ; 865,-25 875,-35 925,-35 935,-25 ; 865,25 875,35 925,35 935,25

## IC11 [mil]
pads (22):
  oval 82.5x165 hole 55: 1(-1000,100) 1A(-1000,-100) 2(-800,100) 2A(-800,-100) 3(-600,100) 3A(-600,-100) 4(-400,100) 4A(-400,-100) 5(-200,100) 5A(-200,-100) 6(0,100) 6A(0,-100) 7(200,100) 7A(200,-100) 8(400,100) 8A(400,-100) 9(600,100) 9A(600,-100) 10(800,100) 10A(800,-100) 11(1000,100) 11A(1000,-100)
Top Overlay:
  lines w6: -1060,-515 -1060,-540 ; -1060,-400 -1060,-300 ; -1035,-25 -1035,25 ; -965,-25 -965,25 ; -960,-165 -960,-210 ; -960,-35 -960,-25 -900,-25 -900,-100 ; -955,-515 -955,-540 ; -955,-400 -955,-345 ; -945,-100 -900,-100 ; -850,-400 -850,-300 ; -845,-515 -845,-540 ; -835,-25 -835,25 ; -765,-25 -765,25 ; -750,-515 -750,-540 ; -750,-400 -750,-300 ; -635,-25 -635,25 ; -565,-25 -565,25 ; -435,-25 -435,25 ; -365,-25 -365,25 ; -235,-25 -235,25 ; -165,-25 -165,25 ; -35,-25 -35,25 ; 35,-25 35,25 ; 165,-25 165,25 ; 235,-25 235,25 ; 365,-25 365,25 ; 435,-25 435,25 ; 565,-25 565,25 ; 635,-25 635,25 ; 765,-25 765,25 ; 835,-25 835,25 ; 945,-100 900,-100 ; 960,-165 960,-210 ; 960,-35 960,-25 900,-25 900,-100 ; 965,-25 965,25 ; 1035,-25 1035,25 ; -1140,-230 -1140,-210 ; -1140,-230 -960,-230 ; -1140,-230 -1140,-300 -1100,-300 ; -1140,-210 -1140,211 1140,211 1140,-210 ; -1140,-210 -960,-210 ; -1100,-300 -1060,-300 ; -1100,-300 -1100,-540 -1060,-540 ; -1060,-540 -955,-540 ; -1060,-300 -960,-300 ; -960,-320 -960,-345 -955,-345 ; -960,-320 -900,-320 ; -960,-320 -960,-300 ; -960,-300 -960,-230 ; -960,-230 -960,-210 ; -955,-540 -845,-540 ; -955,-345 -900,-345 -900,-320 ; -900,-320 -900,-300 ; -900,-300 -900,-230 ; -900,-300 -850,-300 ; -900,-230 -900,-210 ; -900,-230 900,-230 ; -900,-210 -900,-100 ; -900,-210 900,-210 ; -850,-300 -750,-300 ; -845,-540 -750,-540 ; -750,-540 -650,-540 ; -750,-300 -650,-300 ; -650,-540 -550,-540 ; -650,-540 -650,-300 ; -650,-300 -550,-300 ; -550,-540 -450,-540 ; -550,-540 -550,-300 ; -550,-300 -450,-300 ; -450,-540 -350,-540 ; -450,-540 -450,-300 ; -450,-300 -350,-300 ; -350,-540 -250,-540 ; -350,-540 -350,-300 ; -350,-300 -250,-300 ; -250,-540 -150,-540 ; -250,-540 -250,-300 ; -250,-300 -150,-300 ; -150,-540 -50,-540 ; -150,-540 -150,-300 ; -150,-300 -50,-300 ; -50,-540 50,-540 ; -50,-540 -50,-300 ; -50,-300 50,-300 ; 50,-540 150,-540 ; 50,-540 50,-300 ; 50,-300 150,-300 ; 150,-540 250,-540 ; 150,-540 150,-300 ; 150,-300 250,-300 ; 250,-540 350,-540 ; 250,-540 250,-300 ; 250,-300 350,-300 ; 350,-540 450,-540 ; 350,-540 350,-300 ; 350,-300 450,-300 ; 450,-540 550,-540 ; 450,-540 450,-300 ; 450,-300 550,-300 ; 550,-540 650,-540 ; 550,-540 550,-300 ; 550,-300 650,-300 ; 650,-540 750,-540 ; 650,-540 650,-300 ; 650,-300 750,-300 ; 750,-540 850,-540 ; 750,-540 750,-300 ; 750,-300 850,-300 ; 850,-540 955,-540 ; 850,-540 850,-300 ; 850,-300 900,-300 ; 900,-320 900,-300 ; 900,-320 960,-320 ; 900,-320 900,-345 955,-345 ; 900,-300 900,-230 ; 900,-230 960,-230 ; 900,-230 900,-210 ; 900,-210 960,-210 ; 900,-210 900,-100 ; 955,-540 1060,-540 ; 955,-540 955,-345 ; 955,-345 960,-345 960,-320 ; 960,-320 960,-300 ; 960,-300 1060,-300 ; 960,-300 960,-230 ; 960,-230 1140,-230 ; 960,-230 960,-210 ; 960,-210 1140,-210 ; 1060,-540 1100,-540 1100,-300 ; 1060,-540 1060,-300 ; 1060,-300 1100,-300 ; 1100,-300 1140,-300 1140,-230 ; 1140,-230 1140,-210
  text "3" at -690,75 h77.5
  text "1" at -1080,75 h77.5
  text "2" at -890,75 h77.5
  text "4" at -490,75 h77.5
  text "5" at -290,75 h77.5
  text "6" at -90,75 h77.5
  text "7" at 110,75 h77.5
  text "8" at 310,75 h77.5
  text "9" at 510,75 h77.5
  text "10" at 675,75 h77.5
  text "11" at 875,75 h77.5
Mechanical 16:
  lines w6: -1035,-25 -1025,-35 -975,-35 -965,-25 ; -1035,25 -1025,35 -975,35 -965,25 ; -960,-165 -960,-100 ; -960,-35 -960,-100 ; -945,-100 -960,-100 ; -835,-25 -825,-35 -775,-35 -765,-25 ; -835,25 -825,35 -775,35 -765,25 ; -635,-25 -625,-35 -575,-35 -565,-25 ; -635,25 -625,35 -575,35 -565,25 ; -435,-25 -425,-35 -375,-35 -365,-25 ; -435,25 -425,35 -375,35 -365,25 ; -235,-25 -225,-35 -175,-35 -165,-25 ; -235,25 -225,35 -175,35 -165,25 ; -35,-25 -25,-35 25,-35 35,-25 ; -35,25 -25,35 25,35 35,25 ; 165,-25 175,-35 225,-35 235,-25 ; 165,25 175,35 225,35 235,25 ; 365,-25 375,-35 425,-35 435,-25 ; 365,25 375,35 425,35 435,25 ; 565,-25 575,-35 625,-35 635,-25 ; 565,25 575,35 625,35 635,25 ; 765,-25 775,-35 825,-35 835,-25 ; 765,25 775,35 825,35 835,25 ; 945,-100 960,-100 ; 960,-165 960,-100 ; 960,-35 960,-100 ; 965,-25 975,-35 1025,-35 1035,-25 ; 965,25 975,35 1025,35 1035,25

## IC12 [mil]
pads (24):
  oval 82.5x165 hole 55: 1(-1100,100) 1A(-1100,-100) 2(-900,100) 2A(-900,-100) 3(-700,100) 3A(-700,-100) 4(-500,100) 4A(-500,-100) 5(-300,100) 5A(-300,-100) 6(-100,100) 6A(-100,-100) 7(100,100) 7A(100,-100) 8(300,100) 8A(300,-100) 9(500,100) 9A(500,-100) 10(700,100) 10A(700,-100) 11(900,100) 11A(900,-100) 12(1100,100) 12A(1100,-100)
Top Overlay:
  drawing of 155 lines, arcs and shapes, not listed
  text "3" at -790,75 h77.5
  text "1" at -1180,75 h77.5
  text "2" at -990,75 h77.5
  text "4" at -590,75 h77.5
  text "5" at -390,75 h77.5
  text "6" at -190,75 h77.5
  text "7" at 10,75 h77.5
  text "8" at 210,75 h77.5
  text "9" at 410,75 h77.5
  text "10" at 575,75 h77.5
  text "11" at 775,75 h77.5
  text "12" at 975,75 h77.5
Mechanical 16:
  lines w6: -1135,-25 -1125,-35 -1075,-35 -1065,-25 ; -1135,25 -1125,35 -1075,35 -1065,25 ; -1060,-165 -1060,-100 ; -1060,-35 -1060,-100 ; -1045,-100 -1060,-100 ; -935,-25 -925,-35 -875,-35 -865,-25 ; -935,25 -925,35 -875,35 -865,25 ; -735,-25 -725,-35 -675,-35 -665,-25 ; -735,25 -725,35 -675,35 -665,25 ; -535,-25 -525,-35 -475,-35 -465,-25 ; -535,25 -525,35 -475,35 -465,25 ; -335,-25 -325,-35 -275,-35 -265,-25 ; -335,25 -325,35 -275,35 -265,25 ; -135,-25 -125,-35 -75,-35 -65,-25 ; -135,25 -125,35 -75,35 -65,25 ; 65,-25 75,-35 125,-35 135,-25 ; 65,25 75,35 125,35 135,25 ; 265,-25 275,-35 325,-35 335,-25 ; 265,25 275,35 325,35 335,25 ; 465,-25 475,-35 525,-35 535,-25 ; 465,25 475,35 525,35 535,25 ; 665,-25 675,-35 725,-35 735,-25 ; 665,25 675,35 725,35 735,25 ; 865,-25 875,-35 925,-35 935,-25 ; 865,25 875,35 925,35 935,25 ; 1045,-100 1060,-100 ; 1060,-165 1060,-100 ; 1060,-35 1060,-100 ; 1065,-25 1075,-35 1125,-35 1135,-25 ; 1065,25 1075,35 1125,35 1135,25